# Altium schematic symbol library SCH - DRIVER - GATE - TI DRV8300N RGE.SchLib: 1 symbol
Pins are listed as number, name and electrical type; pins without a type are passive.

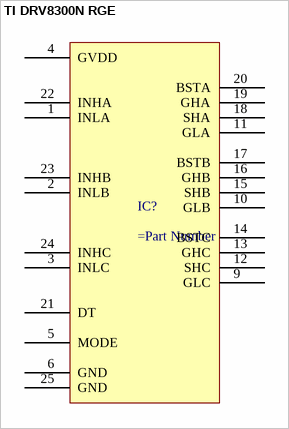
[diagram p0: symbol TI DRV8300N RGE]

## TI DRV8300N RGE
designator IC?
pins: 1 INLA, 2 INLB, 3 INLC, 4 GVDD, 5 MODE, 6 GND, 9 GLC, 10 GLB, 11 GLA, 12 SHC, 13 GHC, 14 BSTC, 15 SHB, 16 GHB, 17 BSTB, 18 SHA, 19 GHA, 20 BSTA, 21 DT, 22 INHA, 23 INHB, 24 INHC, 25 GND